# EAGLE library part JTAG-ARM- (library atmel-arm)
JTAG Programming/Debug Connector
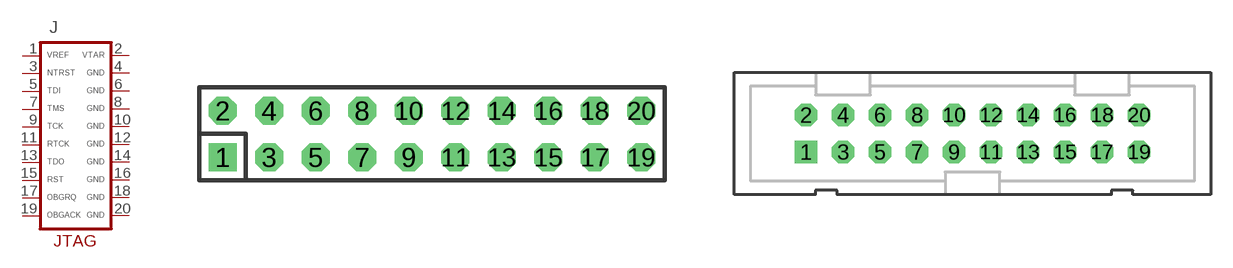
[diagram p1: symbol with the pads of JTAG-ARM; footprints JTAG-ARM, PAK100/2500-20]

Designator prefix J

## JTAG-ARM-HDR100  [JTAG-ARM]
1  VREF  pas
2  VTAR  pas
3  NTRST  pas
4  GND  pas
5  TDI  pas
6  GND  pas
7  TMS  pas
8  GND  pas
9  TCK  pas
10  GND  pas
11  RTCK  pas
12  GND  pas
13  TDO  pas
14  GND  pas
15  RST  pas
16  GND  pas
17  OBGRQ  pas
18  GND  pas
19  OBGACK  pas
20  GND  pas

## JTAG-ARM-PAK100/2500-20  [PAK100/2500-20]
Pads as for JTAG-ARM

## JTAG-ARM-HDR2MM  [2X10M]
Pads as for JTAG-ARM

## Footprint JTAG-ARM (pad centres in mm)
drill 1.016 square: 1 -11.43,-1.27
drill 1.016 octagon: 2 -11.43,1.27; 3 -8.89,-1.27; 4 -8.89,1.27; 5 -6.35,-1.27; 6 -6.35,1.27; 7 -3.81,-1.27; 8 -3.81,1.27; 9 -1.27,-1.27; 10 -1.27,1.27; 11 1.27,-1.27; 12 1.27,1.27; 13 3.81,-1.27; 14 3.81,1.27; 15 6.35,-1.27; 16 6.35,1.27; 17 8.89,-1.27; 18 8.89,1.27; 19 11.43,-1.27; 20 11.43,1.27

## Footprint PAK100/2500-20 (pad centres in mm)
3M (TM) Pak 100 4-Wall Header Straight Source: 3M
drill 1.016 pad 1.422 square: 1 -11.43,-1.27
drill 1.016 pad 1.422 octagon: 2 -11.43,1.27; 3 -8.89,-1.27; 4 -8.89,1.27; 5 -6.35,-1.27; 6 -6.35,1.27; 7 -3.81,-1.27; 8 -3.81,1.27; 9 -1.27,-1.27; 10 -1.27,1.27; 11 1.27,-1.27; 12 1.27,1.27; 13 3.81,-1.27; 14 3.81,1.27; 15 6.35,-1.27; 16 6.35,1.27; 17 8.89,-1.27; 18 8.89,1.27; 19 11.43,-1.27; 20 11.43,1.27

## Footprint 2X10M (pad centres in mm)
PIN HEADER - 2
drill 0.9 square: 1 -9,-1
drill 0.9 round: 2 -9,1; 3 -7,-1; 4 -7,1; 5 -5,-1; 6 -5,1; 7 -3,-1; 8 -3,1; 9 -1,-1; 10 -1,1; 11 1,-1; 12 1,1; 13 3,-1; 14 3,1; 15 5,-1; 16 5,1; 17 7,-1; 18 7,1; 19 9,-1; 20 9,1